# EAGLE library part ZHX1810 (library MAX9812)
ZILOG ZHX1810 Slim Series SIR Transceiver Description: The ZILOG ZHX1810 is a low-profile version of ZiLOG's popular ZHX1010 1-meter transceiver. The transceiver is mechanically enhanced for ultra compact, power-conscious portable products, such as mobile phones, portable printers, handheld computers, and personal data assistants (PDAs). Designed to operate using the IrDA-Data mode, the transceiver combines an infrared emitting diode (IRED) emitter, a PIN photodiode detector, a digital AC coupled LED driver, and a receiver/decoder in a single package. The ZILOG ZHX1810 provides an efficient implementation of the SIR standard in a small-outline footprint format. Application circuit space is also minimized, as only three components are required. ZHX1810 also features an independently controlled shutdown that minimizes current draw to a maximum of 1 µA. Features: Compliant to IrDA Data Specification SIR Wide power supply voltage range, 2.4 to 5.5 V Minimum link distance, 1 M Low-power, listening current, 90 µA (typical) at 3.0 V Slim form factor (9.1 mm long x 3.8 mm wide x 2.73 mm high) Only two external components required Extended operating temperature range (-30 °C to +85 °C) Meets IEC 825-1 Class 1 Eye Safety Specifications Please send any comments to: messi@users.sourceforge.net
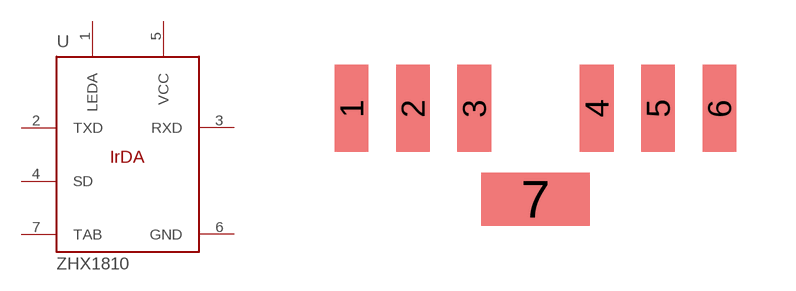
[diagram p35: symbol with the pads of ZHX1810; footprint ZHX1810]

Designator prefix U

## ZHX1810  [ZHX1810]
1  LEDA  pwr
2  TXD  in
3  RXD  out
4  SD  in
5  VCC  pwr
6  GND  pwr
7  TAB  pwr

## Footprint ZHX1810 (pad centres in mm)
Zilog packaging for the IrDA device ZHX1810 Please send any comments to: messi@users.sourceforge.net
smd 0.85 x 2.2: 1 -4.65,0.9; 2 -3.1,0.9; 3 -1.55,0.9; 4 1.55,0.9; 5 3.1,0.9; 6 4.65,0.9
smd 2.75 x 1.35: 7 0,-1.4